# Altium schematic symbol library Components.SchLib: 76 symbols (part 2 of 3)
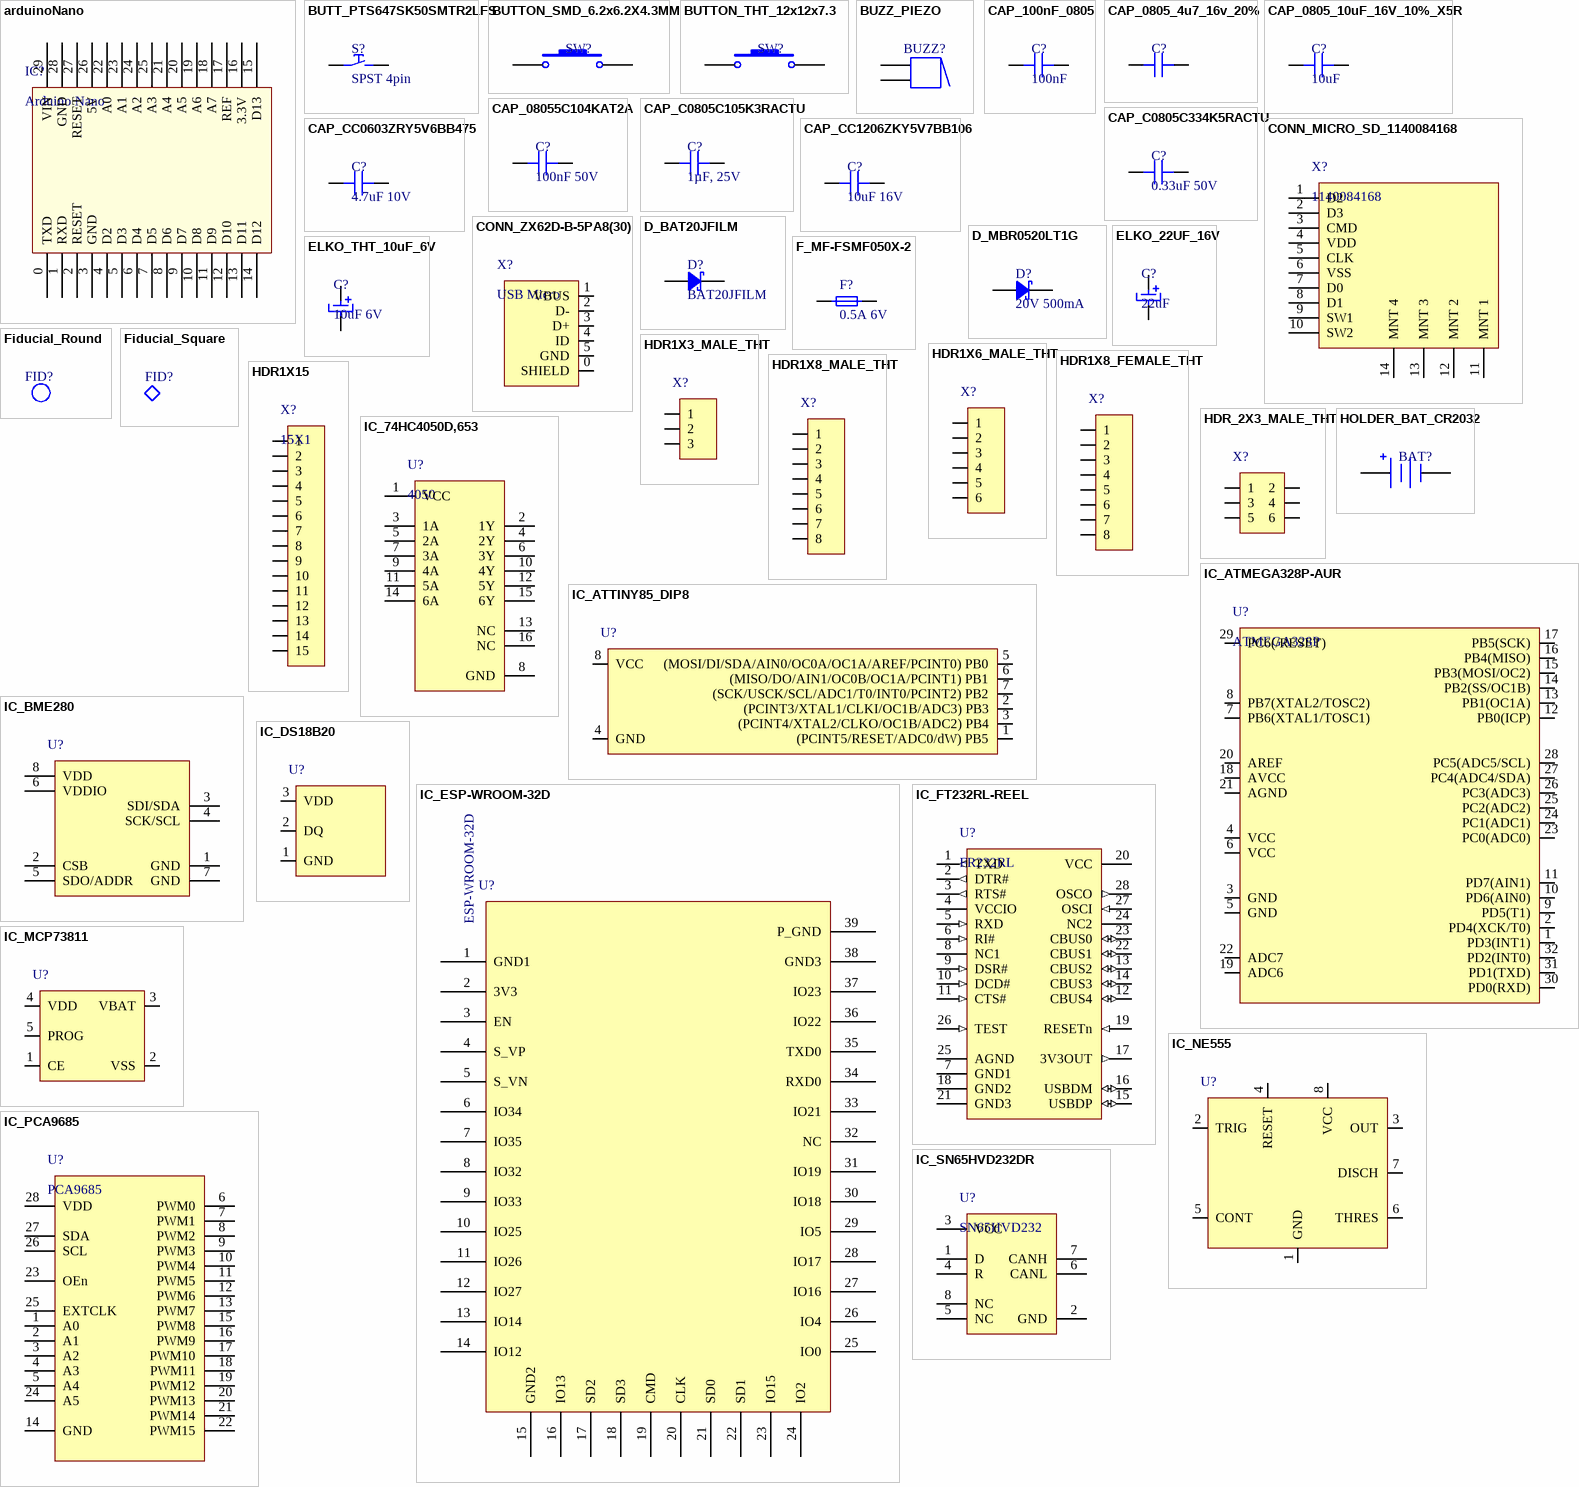
[diagram p2: symbols arduinoNano to IC_SN65HVD232DR]

## IC_ESP-WROOM-32D
designator U?, comment ESP-WROOM-32D
WIFI MODULE 32MBITS SPI FLASH; Manufacturer 1: Espressif Systems; Manufacturer Part Number 1: ESP32-WROOM-32D; Manufacturer Part Number: ESP-WROOM-32D; Supplier 1: Mouser; RoHS: No; Stock 1: 289; Pricing 1: 1=3.800000, 5=3.800000 (USD); ComponentLink1URL: https://www.espressif.com/sites/default/files/documentation/esp32-wroom-32d_esp32-wroom-32u_datasheet_en.pdf?src-supplier=Digi-Key; ComponentLink1Description: https://www.espressif.com/sites/default/files/documentation/esp32-wroom-32d_esp32-wroom-32u_datasheet_en.pdf?src-supplier=Digi-Key; Supplier Part Number 1: 356-ESP32WROOM-32D
footprint ESP-WROOM-32 (SP32-WROOM-32D)
pins: 1 GND1, 2 3V3, 3 EN, 4 S_VP, 5 S_VN, 6 IO34, 7 IO35, 8 IO32, 9 IO33, 10 IO25, 11 IO26, 12 IO27, 13 IO14, 14 IO12, 15 GND2, 16 IO13, 17 SD2, 18 SD3, 19 CMD, 20 CLK, 21 SD0, 22 SD1, 23 IO15, 24 IO2, 25 IO0, 26 IO4, 27 IO16, 28 IO17, 29 IO5, 30 IO18, 31 IO19, 32 NC, 33 IO21, 34 RXD0, 35 TXD0, 36 IO22, 37 IO23, 38 GND3, 39 P_GND

## IC_FT232RL-REEL
designator U?, comment FR232RL
IC USB FS SERIAL UART 28-SSOP; Manufacturer 1: FTDI; Manufacturer Part Number 1: FT232RL-REEL; Number of Channels: 1; Max Supply Voltage: 5.25V; Min Supply Voltage: 3.3V; Data Rate: 12Mbps; Interface: UART,RS-232,RS-422,RS-485; Operating Supply Current: 15mA; Voltage: 5V; Supplier 1: Mouser; Stock 1: 112988; Pricing 1: 1=4.50000, 10=4.05000, 50=3.85000, 100=3.65000, 250=3.25000, 500=2.85000, 1000=2.65000, 6000=2.35000, 10000=2.65000 (USD); RoHS: Yes; Mount: Surface Mount; Case/Package: SSOP; Number of Pins: 28; Weight: 0.080001oz; Min Operating Temperature: -40°C; Max Operating Temperature: 85°C; Packaging: Tape and Reel; Package Quantity: 2000; Number of Transceivers: 1; Length: 10.2mm; Height: 1.75mm; Width: 5.3mm; Radiation Hardening: No; Lead Free: Lead Free; REACH SVHC: No SVHC; ComponentLink1URL: https://datasheet.ciiva.com/34304/2161019-34304054.pdf?src-supplier=Jameco; ComponentLink1Description: https://datasheet.ciiva.com/34304/2161019-34304054.pdf?src-supplier=Jameco; ComponentLink2URL: https://datasheet.ciiva.com/4787/ds-ft232r-11534-4787658.pdf?src-supplier=Mouser; ComponentLink2Description: https://datasheet.ciiva.com/4787/ds-ft232r-11534-4787658.pdf?src-supplier=Mouser; ComponentLink3URL: https://datasheet.ciiva.com/26841/ft232rl-reel-26841080.pdf?src-supplier=IIIC; ComponentLink3Description: https://datasheet.ciiva.com/26841/ft232rl-reel-26841080.pdf?src-supplier=IIIC; ComponentLink4URL: https://datasheet.ciiva.com/1787/ds-ft232r-1787047.pdf?src-supplier=Digi-Key; ComponentLink4Description: https://datasheet.ciiva.com/1787/ds-ft232r-1787047.pdf?src-supplier=Digi-Key; ComponentLink5URL: https://datasheet.ciiva.com/1787/ds-ft232r-1787048.pdf?src-supplier=Digi-Key; ComponentLink5Description: https://datasheet.ciiva.com/1787/ds-ft232r-1787048.pdf?src-supplier=Digi-Key; ComponentLink6URL: https://datasheet.ciiva.com/1787/ds-ft232r-1787049.pdf?src-supplier=Digi-Key; ComponentLink6Description: https://datasheet.ciiva.com/1787/ds-ft232r-1787049.pdf?src-supplier=Digi-Key; ComponentLink7URL: https://datasheet.ciiva.com/15150/getdatasheetpartid-643207-15150506.pdf?src-supplier=Verical; ComponentLink7Description: https://datasheet.ciiva.com/15150/getdatasheetpartid-643207-15150506.pdf?src-supplier=Verical; ComponentLink8URL: https://datasheet.ciiva.com/16200/ds-ft232r-16200652.pdf?src-supplier=Future+Electronics; ComponentLink8Description: https://datasheet.ciiva.com/16200/ds-ft232r-16200652.pdf?src-supplier=Future+Electronics; Supplier Part Number 1: 895-FT232RL
footprint SOP65P780X200-28N (SOP, 28-Leads, Body 10.20x5.30mm, Pitch 0.65mm, IPC Medium Density)
pins: 1 TXD (out), 2 DTR# (out), 3 RTS# (out), 4 VCCIO (power), 5 RXD (in), 6 RI# (in), 7 GND1 (power), 8 NC1, 9 DSR# (in), 10 DCD# (in), 11 CTS# (in), 12 CBUS4 (io), 13 CBUS2 (io), 14 CBUS3 (io), 15 USBDP (io), 16 USBDM (io), 17 3V3OUT (out), 18 GND2 (power), 19 RESETn (in), 20 VCC (power), 21 GND3 (power), 22 CBUS1 (io), 23 CBUS0 (io), 24 NC2, 25 AGND (power), 26 TEST (in), 27 OSCI (in), 28 OSCO (out)

## IC_MCP73811
designator U?, comment MCP73811  (value not drawn)
MICROCHIP - MCP73811T-420I/OT - IC, BATT MGMT, LI-ION/LI-POLY, SOT23-5; Output Voltage: 4.2V; Number of Cells: 1; Max Input Voltage: 7V; Max Supply Voltage: 6V; Min Supply Voltage: 3.75V; Output Current: 450mA; Operating Supply Current: 1mA; Drain to Source Resistance: 400mR; Supplier 1: Mouser; Manufacturer 1: Microchip; Manufacturer Part Number 1: MCP73811T-420I/OT; RoHS: Yes; Category: Battery Management; Stock 1: 10713; Pricing 1: 1=0.51000, 10=0.51000, 25=0.43000, 100=0.39000, 250=0.39000, 500=0.39000 (USD); Mount: Surface Mount; Case/Package: SOT-23; Number of Pins: 5; Min Operating Temperature: -40°C; Max Operating Temperature: 85°C; Packaging: Tape and Reel; Package Quantity: 3000; Number of Channels: 1; Max Output Voltage: 4.2V; Max Charge Current: 450mA; Voltage Rating: 4.2V; Length: 3.1mm; Height: 1.3mm; Width: 1.8mm; Radiation Hardening: No; REACH SVHC: No SVHC; Lead Free: Lead Free; ComponentLink1URL: https://datasheet.ciiva.com/16495/filehandler-aspxddocname-en528273-16495933.pdf?src-supplier=Future+Electronics; ComponentLink1Description: https://datasheet.ciiva.com/16495/filehandler-aspxddocname-en528273-16495933.pdf?src-supplier=Future+Electronics; ComponentLink2URL: https://datasheet.ciiva.com/1137/77596-1137798.pdf?src-supplier=Element14; ComponentLink2Description: https://datasheet.ciiva.com/1137/77596-1137798.pdf?src-supplier=Element14; ComponentLink3URL: https://datasheet.ciiva.com/17299/22036b-17299414.pdf?src-supplier=Avnet+Europe; ComponentLink3Description: https://datasheet.ciiva.com/17299/22036b-17299414.pdf?src-supplier=Avnet+Europe; ComponentLink4URL: https://datasheet.ciiva.com/3213/22036b-3213402.pdf?src-supplier=Avnet; ComponentLink4Description: https://datasheet.ciiva.com/3213/22036b-3213402.pdf?src-supplier=Avnet; ComponentLink5URL: https://datasheet.ciiva.com/1931/22036b-1931947.pdf?src-supplier=Digi-Key; ComponentLink5Description: https://datasheet.ciiva.com/1931/22036b-1931947.pdf?src-supplier=Digi-Key; ComponentLink6URL: https://datasheet.ciiva.com/8039/77596-8039387.pdf?src-supplier=Element14; ComponentLink6Description: https://datasheet.ciiva.com/8039/77596-8039387.pdf?src-supplier=Element14; ComponentLink7URL: https://datasheet.ciiva.com/1931/22036b-1931948.pdf?src-supplier=Digi-Key; ComponentLink7Description: https://datasheet.ciiva.com/1931/22036b-1931948.pdf?src-supplier=Digi-Key; ComponentLink8URL: https://datasheet.ciiva.com/18411/70046436-18411420.pdf?src-supplier=Allied+Electronics; ComponentLink8Description: https://datasheet.ciiva.com/18411/70046436-18411420.pdf?src-supplier=Allied+Electronics; ComponentLink9URL: https://datasheet.ciiva.com/1931/22036b-1931949.pdf?src-supplier=Digi-Key; ComponentLink9Description: https://datasheet.ciiva.com/1931/22036b-1931949.pdf?src-supplier=Digi-Key; Supplier Part Number 1: 579-MCP73811T-420IOT
footprint SOT23-5P95_270X145L35X35N (Small Outline Transistor (SOT23), 0.95 mm pitch; 5 pin, 2.90 mm L X 1.55 mm W X 1.45 mm H body)
pins: 1 CE, 2 VSS, 3 VBAT, 4 VDD, 5 PROG

## IC_NE555
designator U?, comment NE555  (value not drawn)
TEXAS INSTRUMENTS         NE555P            TIMER SINGLE PRECISION,DIP8 ,0.5MHZ; Min Supply Voltage: 4.5V; Max Supply Voltage: 16V; Number of Timers/Counters: 1; Frequency: 500kHz; High Level Output Current: -200mA; Low Level Output Current: 200mA; Operating Supply Current: 10mA; Nominal Supply Current: 2mA; Quiescent Current: 15mA; Operating Supply Voltage: 5V; Supplier 1: Mouser; Manufacturer 1: Texas Instruments; Manufacturer Part Number 1: NE555P; RoHS: Yes; Category: Clock and Timing; Stock 1: 22987; Pricing 1: 1=0.45000, 10=0.30800, 100=0.14500, 1000=0.11200, 2500=0.09500, 10000=0.08600 (USD); Mount: Through Hole; Case/Package: PDIP; Number of Pins: 8; Weight: 0.015535oz; Contact Plating: Gold; Min Operating Temperature: 0°C; Max Operating Temperature: 70°C; Packaging: Rail/Tube; Package Quantity: 50; Current Rating: 10mA; Length: 9.81mm; Height: 4.57mm; Width: 6.35mm; Radiation Hardening: No; Lead Free: Lead Free; REACH SVHC: No SVHC; ComponentLink1URL: https://datasheet.ciiva.com/1139/sa555-1139904.pdf?src-supplier=Element14; ComponentLink1Description: https://datasheet.ciiva.com/1139/sa555-1139904.pdf?src-supplier=Element14; ComponentLink2URL: https://datasheet.ciiva.com/19457/904085-19457361.pdf?src-supplier=Jameco; ComponentLink2Description: https://datasheet.ciiva.com/19457/904085-19457361.pdf?src-supplier=Jameco; ComponentLink3URL: https://datasheet.ciiva.com/26325/152184-da-01-en-ne555p-timer-tid-26325915.pdf?src-supplier=Conrad; ComponentLink3Description: https://datasheet.ciiva.com/26325/152184-da-01-en-ne555p-timer-tid-26325915.pdf?src-supplier=Conrad; ComponentLink4URL: https://datasheet.ciiva.com/1147/1764032-1147750.pdf?src-supplier=Newark; ComponentLink4Description: https://datasheet.ciiva.com/1147/1764032-1147750.pdf?src-supplier=Newark; ComponentLink5URL: https://datasheet.ciiva.com/14094/ne555-series-eng-tds-14094950.pdf?src-supplier=Distrelec; ComponentLink5Description: https://datasheet.ciiva.com/14094/ne555-series-eng-tds-14094950.pdf?src-supplier=Distrelec; ComponentLink6URL: https://datasheet.ciiva.com/15152/getdatasheetpartid-248510-15152620.pdf?src-supplier=Verical; ComponentLink6Description: https://datasheet.ciiva.com/15152/getdatasheetpartid-248510-15152620.pdf?src-supplier=Verical; ComponentLink7URL: https://datasheet.ciiva.com/14274/ne555-14274456.pdf?src-supplier=Avnet; ComponentLink7Description: https://datasheet.ciiva.com/14274/ne555-14274456.pdf?src-supplier=Avnet; ComponentLink8URL: https://datasheet.ciiva.com/26228/ne555-26228892.pdf?src-supplier=Avnet+Europe; ComponentLink8Description: https://datasheet.ciiva.com/26228/ne555-26228892.pdf?src-supplier=Avnet+Europe; ComponentLink9URL: https://datasheet.ciiva.com/1233/ne555-1233454.pdf?src-supplier=Digi-Key; ComponentLink9Description: https://datasheet.ciiva.com/1233/ne555-1233454.pdf?src-supplier=Digi-Key
footprint DIPS750W60P254L1036H480Q8 (DIPS, 7.50 mm lead span, 2.54 mm pitch; 8 pin, 10.36 mm L X 10.10 mm W X 4.80 mm H body)
pins: 1 GND, 2 TRIG, 3 OUT, 4 RESET, 5 CONT, 6 THRES, 7 DISCH, 8 VCC

## IC_PCA9685
designator U?, comment PCA9685
16-channel, 12-bit PWM Fm+ I2C-bus LED controller; Manufacturer 1: NXP Semiconductors; Manufacturer Part Number 1: PCA9685PW,118; Number of Outputs: 16; Frequency: 1MHz; Max Supply Voltage: 5.5V; Min Supply Voltage: 2.3V; Nominal Supply Current: 10A; Output Current per Channel: 25mA; High Level Output Current: 10mA; Low Level Output Current: 400A; Power Dissipation: 400W; Supplier 1: Mouser; Stock 1: 9912; Pricing 1: 1=2.26000, 10=1.92000, 100=1.54000, 500=1.35000, 1000=1.12000, 2500=1.04000, 5000=0.99800, 10000=0.96000, 25000=0.92200 (USD); RoHS: Yes; Mount: Surface Mount; Case/Package: TSSOP; Number of Pins: 28; Min Operating Temperature: -40°C; Max Operating Temperature: 85°C; Packaging: Tape and Reel; Package Quantity: 2500; Output Voltage: 5.5V; Dimming: PWM; Radiation Hardening: No; Lead Free: Lead Free; ComponentLink1URL: https://datasheet.ciiva.com/15134/getdatasheetpartid-103066-15134201.pdf?src-supplier=Verical; ComponentLink1Description: https://datasheet.ciiva.com/15134/getdatasheetpartid-103066-15134201.pdf?src-supplier=Verical; ComponentLink2URL: https://datasheet.ciiva.com/1947/pca9685-1947062.pdf?src-supplier=Digi-Key; ComponentLink2Description: https://datasheet.ciiva.com/1947/pca9685-1947062.pdf?src-supplier=Digi-Key; ComponentLink3URL: https://datasheet.ciiva.com/8125/pca9685-8125357.pdf?src-supplier=Avnet; ComponentLink3Description: https://datasheet.ciiva.com/8125/pca9685-8125357.pdf?src-supplier=Avnet; Supplier Part Number 1: 771-PCA9685PW,118
footprint SOP28P65_970X640X110L62X24N (Small Outline Pkg (SOP), 0.65 mm pitch; 28 pin, 9.70 mm L X 4.40 mm W X 1.10 mm H body)
pins: 1 A0, 2 A1, 3 A2, 4 A3, 5 A4, 6 PWM0, 7 PWM1, 8 PWM2, 9 PWM3, 10 PWM4, 11 PWM5, 12 PWM6, 13 PWM7, 14 GND, 15 PWM8, 16 PWM9, 17 PWM10, 18 PWM11, 19 PWM12, 20 PWM13, 21 PWM14, 22 PWM15, 23 OEn, 24 A5, 25 EXTCLK, 26 SCL, 27 SDA, 28 VDD

## IC_SN65HVD232DR
designator U?, comment SN65HVD232
CAN Interface IC 3.3-V CAN TRANSCEIVER; Manufacturer 1: Texas Instruments; Manufacturer Part Number 1: SN65HVD232DR; Data Rate: 1Mbps; Min Supply Voltage: 3V; Max Supply Voltage: 3.6V; Nominal Supply Current: 17mA; Number of Transceivers: 1; Supplier 1: Mouser; Stock 1: 27899; Pricing 1: 1=1.95000, 10=1.65000, 100=1.32000, 500=1.16000, 1000=0.95700, 2500=0.89100, 5000=0.85800, 10000=0.82500 (USD); RoHS: Yes; Case/Package: D; Number of Pins: 8; Weight: 0.002561oz; Min Operating Temperature: -40°C; Max Operating Temperature: 85°C; Packaging: Tape and Reel; Package Quantity: 1; Number of Drivers: 1; Number of Receivers: 1; Number of Transmit Buffers: 1; Number of Receive Buffers: 1; Radiation Hardening: No; Lead Free: Lead Free; REACH SVHC: No SVHC; ComponentLink1URL: https://datasheet.ciiva.com/15149/getdatasheetpartid-107534-15149958.pdf?src-supplier=Verical; ComponentLink1Description: https://datasheet.ciiva.com/15149/getdatasheetpartid-107534-15149958.pdf?src-supplier=Verical; ComponentLink2URL: https://datasheet.ciiva.com/1771/sn65hvd230-1771112.pdf?src-supplier=Digi-Key; ComponentLink2Description: https://datasheet.ciiva.com/1771/sn65hvd230-1771112.pdf?src-supplier=Digi-Key; ComponentLink3URL: https://datasheet.ciiva.com/1771/sn65hvd230-1771113.pdf?src-supplier=Digi-Key; ComponentLink3Description: https://datasheet.ciiva.com/1771/sn65hvd230-1771113.pdf?src-supplier=Digi-Key; ComponentLink4URL: https://datasheet.ciiva.com/1771/sn65hvd230-1771114.pdf?src-supplier=Digi-Key; ComponentLink4Description: https://datasheet.ciiva.com/1771/sn65hvd230-1771114.pdf?src-supplier=Digi-Key; Supplier Part Number 1: 595-SN65HVD232DR
footprint SOIC8P127_490X599X175L84X41N (Footprint not found)
pins: 1 D, 2 GND, 3 VCC, 4 R, 5 NC, 6 CANL, 7 CANH, 8 NC

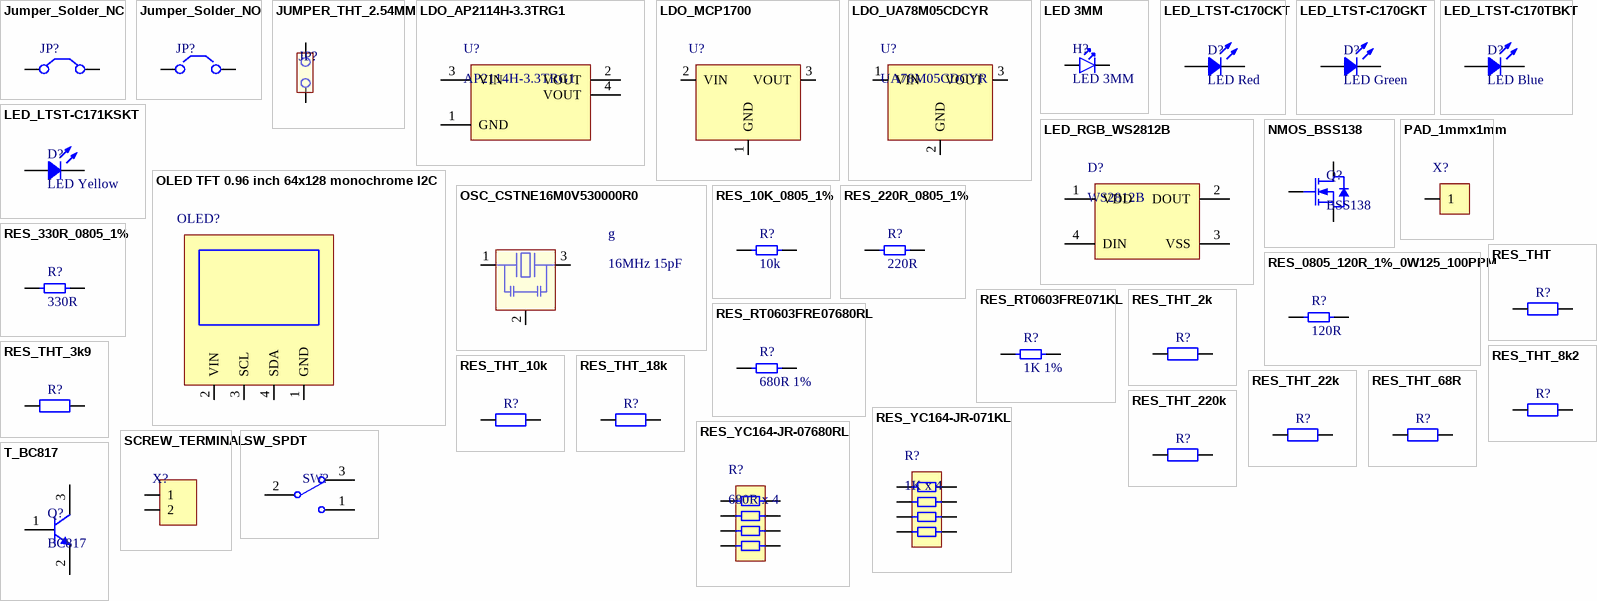
[diagram p1: symbols Jumper_Solder_NC to T_BC817]

## Jumper_Solder_NC
designator JP?
Solder Jumper - Round NC
footprint Round_PCB_Jumper_NC
pins: 1 C1, 2 C2

## Jumper_Solder_NO
designator JP?
Solder Jumper - Round NO
footprint Round_PCB_Jumper_NO
footprint Solder Bridge
pins: 1 C1, 2 C2

## JUMPER_THT_2.54MM
designator JP?
Jumper, through-hole,  2.54mm pitch
footprint HDRV2W64P254_2X1_508X241H850 (Header, Vertical, 2.54 mm pitch; 0.64 mm lead width, 2 pins, 1 row, 2 pins per row, 5.08 mm L X 2.41 mm W X 8.50 mm H body)
pins: 1 C1, 2 C2

## LDO_AP2114H-3.3TRG1
designator U?, comment AP2114H-3.3TRG1
LDO Voltage Regulators 1.5MHz CMOS LDO 2.5V to 5V 600mV 1A; Manufacturer 1: Diodes; Number of Outputs: 1; Max Input Voltage: 6V; Output Voltage: 3.3V; Dropout Voltage: 450mV; Polarity: Positive; Quiescent Current: 65uA; Accuracy: 1.5%; Power Supply Rejection Ratio (PSRR): 65dB; Output Type: Fixed; Supplier 1: Mouser; Manufacturer Part Number 1: AP2114H-3.3TRG1; Stock 1: 20148; Pricing 1: 1=0.36000, 10=0.26800, 100=0.14600, 1000=0.10900, 4000=0.09400, 8000=0.08800 (USD); RoHS: Yes; Mount: Surface Mount; Case/Package: SOT-223; Number of Pins: 3; Weight: 0.000282oz; Min Operating Temperature: -40°C; Max Operating Temperature: 85°C; Packaging: Tape and Reel; Min Input Voltage: 2.5V; Package Quantity: 4000; Output Current: 1A; Number of Regulators: 1; Max Output Current: 1A; Length: 6.7mm; Height: 1.7mm; Width: 3.7mm; Lead Free: Lead Free; ComponentLink1URL: https://datasheet.ciiva.com/29569/ap2114-29569881.pdf?src-supplier=Digi-Key; ComponentLink1Description: https://datasheet.ciiva.com/29569/ap2114-29569881.pdf?src-supplier=Digi-Key; ComponentLink2URL: https://datasheet.ciiva.com/29569/ap2114-29569882.pdf?src-supplier=Digi-Key; ComponentLink2Description: https://datasheet.ciiva.com/29569/ap2114-29569882.pdf?src-supplier=Digi-Key; ComponentLink3URL: https://datasheet.ciiva.com/29569/ap2114-29569883.pdf?src-supplier=Digi-Key; ComponentLink3Description: https://datasheet.ciiva.com/29569/ap2114-29569883.pdf?src-supplier=Digi-Key; Supplier Part Number 1: 621-AP2114H-3.3TRG1
footprint SOT223-4P230_700X180L90X71N (Small Outline Transistor (SOT223), 2.30 mm pitch; 4 pin, 6.50 mm L X 3.50 mm W X 1.80 mm H body)
pins: 1 GND, 2 VOUT, 3 VIN, 4 VOUT

## LDO_MCP1700
designator U?, comment MCP1700  (value not drawn)
MICROCHIP - MCP1700T-3302E/MB - V REG, LDO, 0.25A, SMD, SOT-89-8; Max Input Voltage: 6V; Quiescent Current: 4uA; Output Type: Fixed; Number of Outputs: 1; Min Input Voltage: 2.3V; Output Voltage: 3.3V; Dropout Voltage: 178mV; Output Current: 250mA; Polarity: Positive; Accuracy: 3%; Max Power Dissipation: 1.635W; Input Bias Current: 1.6uA; Output Voltage Accuracy: 2%; Supplier 1: Mouser; Manufacturer 1: Microchip; Manufacturer Part Number 1: MCP1700T-3302E/MB; RoHS: Yes; Category: Voltage Regulators - Linear; Stock 1: 8546; Pricing 1: 1=0.37000, 10=0.37000, 25=0.31000, 100=0.28000, 250=0.28000, 500=0.28000 (USD); Mount: Surface Mount; Case/Package: SOT-89; Number of Pins: 3; Min Operating Temperature: -40°C; Max Operating Temperature: 125°C; Packaging: Tape and Reel; Min Output Voltage: 3.3V; Max Output Current: 250mA; Max Supply Voltage: 6V; Min Supply Voltage: 2.3V; Nominal Output Voltage: 3.3V; Package Quantity: 1000; Max Output Voltage: 3.3V; Termination: SMD/SMT; Nominal Supply Current: 4uA; Power Dissipation: 1.635W; Length: 0.181inch; Height: 0.063inch; Width: 0.102inch; Radiation Hardening: No; REACH SVHC: No SVHC; Lead Free: Lead Free; ComponentLink1URL: https://datasheet.ciiva.com/2040/21826b-2040133.pdf?src-supplier=Digi-Key; ComponentLink1Description: https://datasheet.ciiva.com/2040/21826b-2040133.pdf?src-supplier=Digi-Key; ComponentLink2URL: https://datasheet.ciiva.com/8239/21826b-8239141.pdf?src-supplier=Avnet; ComponentLink2Description: https://datasheet.ciiva.com/8239/21826b-8239141.pdf?src-supplier=Avnet; ComponentLink3URL: https://datasheet.ciiva.com/2040/21826b-2040134.pdf?src-supplier=Digi-Key; ComponentLink3Description: https://datasheet.ciiva.com/2040/21826b-2040134.pdf?src-supplier=Digi-Key; ComponentLink4URL: https://datasheet.ciiva.com/46425/21826b-46425574.pdf?src-supplier=Element14; ComponentLink4Description: https://datasheet.ciiva.com/46425/21826b-46425574.pdf?src-supplier=Element14; ComponentLink5URL: https://datasheet.ciiva.com/2040/21826b-2040135.pdf?src-supplier=Digi-Key; ComponentLink5Description: https://datasheet.ciiva.com/2040/21826b-2040135.pdf?src-supplier=Digi-Key; ComponentLink6URL: https://datasheet.ciiva.com/14150/mcp1700-eng-tds-14150121.pdf?src-supplier=Distrelec; ComponentLink6Description: https://datasheet.ciiva.com/14150/mcp1700-eng-tds-14150121.pdf?src-supplier=Distrelec; ComponentLink7URL: https://datasheet.ciiva.com/22710/77612-22710987.pdf?src-supplier=Element14; ComponentLink7Description: https://datasheet.ciiva.com/22710/77612-22710987.pdf?src-supplier=Element14; ComponentLink8URL: https://datasheet.ciiva.com/16372/filehandler-aspxddocname-en011779-16372940.pdf?src-supplier=Future+Electronics; ComponentLink8Description: https://datasheet.ciiva.com/16372/filehandler-aspxddocname-en011779-16372940.pdf?src-supplier=Future+Electronics; Supplier Part Number 1: 579-MCP1700T3302E/MB
footprint SOT-89
pins: 1 GND, 2 VIN, 3 VOUT

## LDO_UA78M05CDCYR
designator U?, comment UA78M05CDCYR
IC REG LINEAR 5V 500MA SOT223-4; Manufacturer 1: Texas Instruments; Dropout Voltage: 2V; Number of Outputs: 1; Min Input Voltage: 7V; Max Input Voltage: 25V; Polarity: Positive; Power Supply Rejection Ratio (PSRR): 80dB; Quiescent Current: 4.5mA; Output Type: Fixed; Supplier 1: Mouser; Manufacturer Part Number 1: UA78M05CDCYR; Stock 1: 27564; Pricing 1: 1=0.62000, 10=0.51000, 50=0.51000, 100=0.33000, 1000=0.26400, 2500=0.24000, 5000=0.22300, 10000=0.21500, 25000=0.20700, 50000=0.19900 (USD); RoHS: Yes; Mount: Surface Mount; Case/Package: SOT-223-4; Number of Pins: 4; Contact Plating: Tin,Matte; Min Operating Temperature: -40°C; Max Operating Temperature: 125°C; Package Quantity: 1; Packaging: Tape and Reel; Max Output Current: 500mA; Output Voltage: 5V; Output Current: 500mA; Number of Regulators: 1; Nominal Output Voltage: 5V; Lead Free: Lead Free; REACH SVHC: No SVHC; ComponentLink1URL: https://datasheet.ciiva.com/34302/1131150-34302006.pdf?src-supplier=Jameco; ComponentLink1Description: https://datasheet.ciiva.com/34302/1131150-34302006.pdf?src-supplier=Jameco; ComponentLink2URL: https://datasheet.ciiva.com/26905/ua78m05cdcyr-26905194.pdf?src-supplier=IIIC; ComponentLink2Description: https://datasheet.ciiva.com/26905/ua78m05cdcyr-26905194.pdf?src-supplier=IIIC; ComponentLink3URL: https://datasheet.ciiva.com/2042/ua78m05-2042242.pdf?src-supplier=Digi-Key; ComponentLink3Description: https://datasheet.ciiva.com/2042/ua78m05-2042242.pdf?src-supplier=Digi-Key; ComponentLink4URL: https://datasheet.ciiva.com/2042/ua78m05-2042243.pdf?src-supplier=Digi-Key; ComponentLink4Description: https://datasheet.ciiva.com/2042/ua78m05-2042243.pdf?src-supplier=Digi-Key; ComponentLink5URL: https://datasheet.ciiva.com/2042/ua78m05-2042244.pdf?src-supplier=Digi-Key; ComponentLink5Description: https://datasheet.ciiva.com/2042/ua78m05-2042244.pdf?src-supplier=Digi-Key; ComponentLink6URL: https://datasheet.ciiva.com/46429/1831162-46429893.pdf?src-supplier=Element14; ComponentLink6Description: https://datasheet.ciiva.com/46429/1831162-46429893.pdf?src-supplier=Element14; ComponentLink7URL: https://datasheet.ciiva.com/3224/ua78m05-3224614.pdf?src-supplier=Avnet; ComponentLink7Description: https://datasheet.ciiva.com/3224/ua78m05-3224614.pdf?src-supplier=Avnet; ComponentLink8URL: https://datasheet.ciiva.com/16490/ua78m12-16490202.pdf?src-supplier=Avnet+Asia; ComponentLink8Description: https://datasheet.ciiva.com/16490/ua78m12-16490202.pdf?src-supplier=Avnet+Asia; Supplier Part Number 1: 595-UA78M05CDCYR
footprint SOT223-4P230_700X163L100X74 (Small Outline Transistor (SOT223), 2.30 mm pitch; 4 pin, 6.50 mm L X 3.50 mm W X 1.63 mm H body)
pins: 1 VIN, 2 GND, 3 VOUT

## LED 3MM
designator H?
LED 3MM THT; RoHS: RoHS Compliant; THT/SMT: THT
footprint LED_3MM (LED; 2 Leads)
pins: A, K

## LED_LTST-C170CKT
designator D?, comment LED Red
LED Uni-Color Red 660nm 2-Pin SMD T/R; Manufacturer 1: Vishay Lite-On; Manufacturer Part Number 1: LTST-C170CKT; Lens Color: Colorless; Forward Voltage: 1.8V; Luminous Intensity: 10mcd; Viewing Angle: 130°; Lens Style: Diffused,Colorless,Rectangular,Clear; Test Current: 10mA; Forward Current: 40mA; Dominant Wavelength: 638nm; Number of LEDs: 1; Lens Transparency: Clear; Power Rating: 100mW; Reverse Voltage: 5V; Supplier 1: Mouser; Stock 1: 52302; Pricing 1: 1=0.35000, 10=0.19000, 50=0.19000, 100=0.08700, 1000=0.06400, 3000=0.05400, 9000=0.04900, 10000=0.04900, 24000=0.04400, 45000=0.04000, 99000=0.03700 (USD); RoHS: Yes; Mount: Surface Mount; Case/Package: 0805; Number of Pins: 2; Color: Red; Case Code (Metric): 2012; Case Code (Imperial): 0805; Min Operating Temperature: -55°C; Max Operating Temperature: 85°C; Packaging: Tape and Reel; Package Quantity: 1; Wavelength: 660nm; Illumination Color: Red; Number of Elements: 1; Power Dissipation: 100mW; Max Power Dissipation: 100mW; Voltage: 5V; Length: 2mm; Height: 1.1mm; Width: 1.25mm; Depth: 1.25mm; Radiation Hardening: No; Lead Free: Lead Free; ComponentLink1URL: https://datasheet.ciiva.com/2110/ltst-c170ckt-2110087.pdf?src-supplier=Digi-Key; ComponentLink1Description: https://datasheet.ciiva.com/2110/ltst-c170ckt-2110087.pdf?src-supplier=Digi-Key; ComponentLink2URL: https://datasheet.ciiva.com/15117/getdatasheetpartid-121078-15117607.pdf?src-supplier=Verical; ComponentLink2Description: https://datasheet.ciiva.com/15117/getdatasheetpartid-121078-15117607.pdf?src-supplier=Verical; ComponentLink3URL: https://datasheet.ciiva.com/16199/lite-on20ltst-c170ckt-16199245.pdf?src-supplier=Future+Electronics; ComponentLink3Description: https://datasheet.ciiva.com/16199/lite-on20ltst-c170ckt-16199245.pdf?src-supplier=Future+Electronics; ComponentLink4URL: https://datasheet.ciiva.com/11775/0900766b80dc0276-11775646.pdf?src-supplier=RSComponents; ComponentLink4Description: https://datasheet.ciiva.com/11775/0900766b80dc0276-11775646.pdf?src-supplier=RSComponents; ComponentLink5URL: https://datasheet.ciiva.com/2110/ltst-c170ckt-2110088.pdf?src-supplier=Digi-Key; ComponentLink5Description: https://datasheet.ciiva.com/2110/ltst-c170ckt-2110088.pdf?src-supplier=Digi-Key; ComponentLink6URL: https://datasheet.ciiva.com/2110/ltst-c170ckt-2110089.pdf?src-supplier=Digi-Key; ComponentLink6Description: https://datasheet.ciiva.com/2110/ltst-c170ckt-2110089.pdf?src-supplier=Digi-Key; ComponentLink7URL: https://datasheet.ciiva.com/27051/1260306-27051787.pdf?src-supplier=Jameco; ComponentLink7Description: https://datasheet.ciiva.com/27051/1260306-27051787.pdf?src-supplier=Jameco; Supplier Part Number 1: 859-LTST-C170CKT
footprint LED 0805/2012 RED (Chip Diode, 2-Leads, Body 2.00x1.25mm, IPC Medium Density)
pins: 1, 2

## LED_LTST-C170GKT
designator D?, comment LED Green
Standard LEDs - SMD Green Clear 569nm; Manufacturer 1: Vishay Lite-On; Manufacturer Part Number 1: LTST-C170GKT; Lens Color: Colorless; Viewing Angle: 130°; Lens Style: Diffused,Colorless,Rectangular; Luminous Intensity: 6mcd; Forward Current: 30mA; Forward Voltage: 2.1V; Test Current: 10mA; Wavelength: 565nm; Number of LEDs: 1; Power Rating: 100mW; Reverse Voltage: 5V; Supplier 1: Mouser; Stock 1: 80094; Pricing 1: 1=0.30000, 10=0.16000, 50=0.16000, 100=0.07500, 1000=0.05400, 3000=0.04600, 9000=0.04200, 10000=0.04200, 24000=0.03700, 45000=0.03400, 99000=0.03100 (USD); RoHS: Yes; Mount: Surface Mount; Case/Package: 0805; Number of Pins: 2; Color: Green; Case Code (Metric): 2012; Case Code (Imperial): 0805; Min Operating Temperature: -55°C; Max Operating Temperature: 85°C; Packaging: Tape and Reel; Package Quantity: 1; Dominant Wavelength: 569nm; Illumination Color: Green; Lens Transparency: Clear; Number of Elements: 1; Power Dissipation: 100mW; Voltage: 5V; Length: 2mm; Height: 1.1mm; Width: 1.25mm; Depth: 1.25mm; Radiation Hardening: No; Lead Free: Lead Free; ComponentLink1URL: https://datasheet.ciiva.com/2110/ltst-c170gkt-2110128.pdf?src-supplier=Digi-Key; ComponentLink1Description: https://datasheet.ciiva.com/2110/ltst-c170gkt-2110128.pdf?src-supplier=Digi-Key; ComponentLink2URL: https://datasheet.ciiva.com/25772/ltst-c170gkt-25772881.pdf?src-supplier=Allied+Electronics; ComponentLink2Description: https://datasheet.ciiva.com/25772/ltst-c170gkt-25772881.pdf?src-supplier=Allied+Electronics; ComponentLink3URL: https://datasheet.ciiva.com/15117/getdatasheetpartid-142079-15117738.pdf?src-supplier=Verical; ComponentLink3Description: https://datasheet.ciiva.com/15117/getdatasheetpartid-142079-15117738.pdf?src-supplier=Verical; ComponentLink4URL: https://datasheet.ciiva.com/11773/0900766b80dc0278-11773630.pdf?src-supplier=RSComponents; ComponentLink4Description: https://datasheet.ciiva.com/11773/0900766b80dc0278-11773630.pdf?src-supplier=RSComponents; ComponentLink5URL: https://datasheet.ciiva.com/12400/lite-on-ltst-c170gkt-187191-12400783.pdf?src-supplier=Mouser; ComponentLink5Description: https://datasheet.ciiva.com/12400/lite-on-ltst-c170gkt-187191-12400783.pdf?src-supplier=Mouser; ComponentLink6URL: https://datasheet.ciiva.com/16387/ltst-c170gkt-16387357.pdf?src-supplier=Future+Electronics; ComponentLink6Description: https://datasheet.ciiva.com/16387/ltst-c170gkt-16387357.pdf?src-supplier=Future+Electronics; Supplier Part Number 1: 859-LTST-C170GKT
footprint LED 0805/2012 GREEN (Chip Diode, 2-Leads, Body 2.00x1.25mm, IPC Medium Density)
pins: 1, 2

## LED_LTST-C170TBKT
designator D?, comment LED Blue
LED BLUE CLEAR SMD; Manufacturer 1: Vishay Lite-On; Manufacturer Part Number 1: LTST-C170TBKT; Lens Color: Colorless; Viewing Angle: 130°; Lens Style: Diffused,Colorless,Clear,Rectangular; Number of LEDs: 1; Luminous Intensity: 180mcd; Forward Current: 20mA; Forward Voltage: 3.8V; Dominant Wavelength: 475nm; Wavelength: 468nm; Power Dissipation: 76mW; Reverse Voltage: 5V; Supplier 1: Mouser; Stock 1: 13640; Pricing 1: 1=0.39000, 10=0.24000, 50=0.24000, 100=0.14600, 1000=0.09200, 3000=0.07900, 9000=0.07200, 10000=0.07200, 24000=0.06700, 45000=0.06200, 99000=0.05900 (USD); RoHS: Yes; Mount: Surface Mount; Case/Package: 0805; Number of Pins: 2; Color: Blue; Case Code (Metric): 2012; Case Code (Imperial): 0805; Min Operating Temperature: -20°C; Max Operating Temperature: 80°C; Packaging: Tape and Reel; Package Quantity: 1; Illumination Color: Blue; Lens Transparency: Clear; Test Current: 20mA; Number of Elements: 1; Power Rating: 76mW; Length: 2mm; Height: 1.1mm; Width: 1.25mm; Depth: 1.25mm; Radiation Hardening: No; Lead Free: Lead Free; ComponentLink1URL: https://datasheet.ciiva.com/12400/lite-on-ltst-c170tbkt-190169-12400787.pdf?src-supplier=Mouser; ComponentLink1Description: https://datasheet.ciiva.com/12400/lite-on-ltst-c170tbkt-190169-12400787.pdf?src-supplier=Mouser; ComponentLink2URL: https://datasheet.ciiva.com/27055/1996161-27055955.pdf?src-supplier=Jameco; ComponentLink2Description: https://datasheet.ciiva.com/27055/1996161-27055955.pdf?src-supplier=Jameco; ComponentLink3URL: https://datasheet.ciiva.com/11773/0900766b80dc0281-11773879.pdf?src-supplier=RSComponents; ComponentLink3Description: https://datasheet.ciiva.com/11773/0900766b80dc0281-11773879.pdf?src-supplier=RSComponents; ComponentLink4URL: https://datasheet.ciiva.com/15117/getdatasheetpartid-103986-15117447.pdf?src-supplier=Verical; ComponentLink4Description: https://datasheet.ciiva.com/15117/getdatasheetpartid-103986-15117447.pdf?src-supplier=Verical; ComponentLink5URL: https://datasheet.ciiva.com/16199/lite-on20ltst-c170tbkt-16199611.pdf?src-supplier=Future+Electronics; ComponentLink5Description: https://datasheet.ciiva.com/16199/lite-on20ltst-c170tbkt-16199611.pdf?src-supplier=Future+Electronics; ComponentLink6URL: https://datasheet.ciiva.com/25764/ltst-c170tbkt-25764828.pdf?src-supplier=Allied+Electronics; ComponentLink6Description: https://datasheet.ciiva.com/25764/ltst-c170tbkt-25764828.pdf?src-supplier=Allied+Electronics; ComponentLink7URL: https://datasheet.ciiva.com/2110/s-110-ltst-c170tbkt-2110488.pdf?src-supplier=Digi-Key; ComponentLink7Description: https://datasheet.ciiva.com/2110/s-110-ltst-c170tbkt-2110488.pdf?src-supplier=Digi-Key; ComponentLink8URL: https://datasheet.ciiva.com/2110/s-110-ltst-c170tbkt-2110489.pdf?src-supplier=Digi-Key; ComponentLink8Description: https://datasheet.ciiva.com/2110/s-110-ltst-c170tbkt-2110489.pdf?src-supplier=Digi-Key; ComponentLink9URL: https://datasheet.ciiva.com/2110/s-110-ltst-c170tbkt-2110490.pdf?src-supplier=Digi-Key; ComponentLink9Description: https://datasheet.ciiva.com/2110/s-110-ltst-c170tbkt-2110490.pdf?src-supplier=Digi-Key; Supplier Part Number 1: 859-LTST-C170TBKT
footprint LED 0805/2012 BLUE (Chip Diode, 2-Leads, Body 2.00x1.25mm, IPC Medium Density)
pins: 1, 2

## LED_LTST-C171KSKT
designator D?, comment LED Yellow
LED YELLOW CLEAR CHIP SMD; Manufacturer 1: Vishay Lite-On; Manufacturer Part Number 1: LTST-C171KSKT; Lens Color: Colorless; Luminous Intensity: 50mcd; Forward Voltage: 2V; Viewing Angle: 130°; Forward Current: 30mA; Lens Style: Diffused,Colorless,Rectangular,Clear; Dominant Wavelength: 587nm; Test Current: 20mA; Wavelength: 588nm; Number of LEDs: 1; Power Dissipation: 75mW; Reverse Voltage: 5V; Supplier 1: Mouser; Stock 1: 54023; Pricing 1: 1=0.30000, 10=0.16000, 50=0.16000, 100=0.07500, 1000=0.05400, 3000=0.04600, 9000=0.04200, 10000=0.04200, 24000=0.03700, 45000=0.03400, 99000=0.03100 (USD); RoHS: Yes; Mount: Surface Mount; Case/Package: 0805; Number of Pins: 2; Color: Yellow; Case Code (Metric): 2012; Case Code (Imperial): 0805; Min Operating Temperature: -55°C; Max Operating Temperature: 85°C; Packaging: Tape and Reel; Package Quantity: 1; Illumination Color: Yellow; Lens Transparency: Clear; Power Rating: 75mW; Number of Elements: 1; Max Power Dissipation: 75mW; Length: 2mm; Height: 0.8mm; Width: 1.25mm; Depth: 1.25mm; Radiation Hardening: No; Lead Free: Lead Free; ComponentLink1URL: https://datasheet.ciiva.com/15118/getdatasheetpartid-233685-15118145.pdf?src-supplier=Verical; ComponentLink1Description: https://datasheet.ciiva.com/15118/getdatasheetpartid-233685-15118145.pdf?src-supplier=Verical; ComponentLink2URL: https://datasheet.ciiva.com/19466/2075639-19466196.pdf?src-supplier=Jameco; ComponentLink2Description: https://datasheet.ciiva.com/19466/2075639-19466196.pdf?src-supplier=Jameco; ComponentLink3URL: https://datasheet.ciiva.com/16200/lite-on20ltst-c171kskt-16200102.pdf?src-supplier=Future+Electronics; ComponentLink3Description: https://datasheet.ciiva.com/16200/lite-on20ltst-c171kskt-16200102.pdf?src-supplier=Future+Electronics; ComponentLink4URL: https://datasheet.ciiva.com/12403/lite-on-ltst-c171kskt-190118-12403721.pdf?src-supplier=Mouser; ComponentLink4Description: https://datasheet.ciiva.com/12403/lite-on-ltst-c171kskt-190118-12403721.pdf?src-supplier=Mouser; ComponentLink5URL: https://datasheet.ciiva.com/11774/0900766b80dc029a-11774587.pdf?src-supplier=RSComponents; ComponentLink5Description: https://datasheet.ciiva.com/11774/0900766b80dc029a-11774587.pdf?src-supplier=RSComponents; ComponentLink6URL: https://datasheet.ciiva.com/2110/s-110-ltst-c171kskt-2110147.pdf?src-supplier=Digi-Key; ComponentLink6Description: https://datasheet.ciiva.com/2110/s-110-ltst-c171kskt-2110147.pdf?src-supplier=Digi-Key; ComponentLink7URL: https://datasheet.ciiva.com/2110/s-110-ltst-c171kskt-2110148.pdf?src-supplier=Digi-Key; ComponentLink7Description: https://datasheet.ciiva.com/2110/s-110-ltst-c171kskt-2110148.pdf?src-supplier=Digi-Key; ComponentLink8URL: https://datasheet.ciiva.com/2110/s-110-ltst-c171kskt-2110149.pdf?src-supplier=Digi-Key; ComponentLink8Description: https://datasheet.ciiva.com/2110/s-110-ltst-c171kskt-2110149.pdf?src-supplier=Digi-Key; Supplier Part Number 1: 859-LTST-C171KSKT
footprint LED 0805/2012 YELLOW (Chip Diode, 2-Leads, Body 2.00x1.25mm, IPC Medium Density)
pins: 1, 2

## LED_RGB_WS2812B
designator D?, comment WS2812B
Intelligent control RGB LED integrated light source; Manufacturer 1: SparkFun; Manufacturer Part Number 1: COM-13667; Supplier 1: Mouser; Stock 1: 0; Pricing 1: 1=4.95000, 5=4.95000 (USD); RoHS: No; ComponentLink1URL: https://media.digikey.com/pdf/Data%20Sheets/Sparkfun%20PDFs/Light-Emitting_Diodes_LEDs_Tutorial_Web.pdf?src-supplier=Digi-Key; ComponentLink1Description: https://media.digikey.com/pdf/Data%20Sheets/Sparkfun%20PDFs/Light-Emitting_Diodes_LEDs_Tutorial_Web.pdf?src-supplier=Digi-Key; Supplier Part Number 1: 474-COM-13667
footprint WS2812B (Footprint not found)
pins: 1 VDD, 2 DOUT, 3 VSS, 4 DIN

## NMOS_BSS138
designator Q?, comment BSS138
MOSFET SOT-23 N-CH LOGIC; Manufacturer 1: TI National Semiconductor; Supplier 1: Mouser; Manufacturer Part Number 1: BSS138; Stock 1: 862970; Pricing 1: 1=0.26000, 10=0.17800, 100=0.07400, 1000=0.05000, 3000=0.03900, 9000=0.03300, 24000=0.03100, 45000=0.02900 (USD); RoHS: No; ComponentLink1URL: https://www.fairchildsemi.com/package-drawings/MA/MA03B.pdf?src-supplier=Digi-Key; ComponentLink1Description: https://www.fairchildsemi.com/package-drawings/MA/MA03B.pdf?src-supplier=Digi-Key; Supplier Part Number 1: 512-BSS138
footprint SOT23-3P95_240X120L20X48N (Small Outline Transistor (SOT23), 0.95 mm pitch; 3 pin, 2.92 mm L X 1.325 mm W X 1.20 mm H body)
pins: 1 G, 2 S, 3 D

## OLED TFT 0.96 inch 64x128 monochrome I2C
designator OLED?
OLED TFT 0.96 inch 64x128 monochrome I2C
footprint OLED TFT 0.96 inch 64x128 monochrome I2C
pins: 1 GND, 2 VIN, 3 SCL, 4 SDA

## OSC_CSTNE16M0V530000R0
designator g, comment 16MHz 15pF
CER RES 16.0000MHZ 15PF SMD; Manufacturer 1: Murata; Manufacturer Part Number 1: CSTNE16M0V530000R0; Supplier 1: Mouser; Stock 1: 50852; Pricing 1: 1=0.29000, 10=0.24300, 50=0.21900, 100=0.19200, 500=0.18200, 1000=0.15300, 2000=0.14400, 3000=0.12900, 9000=0.12600, 10000=0.12600 (USD); RoHS: No; ComponentLink1URL: https://www.murata.com/en/products/productdata/8801162231838/SPEC-CSTNE16M0V530000R0.pdf?src-supplier=Digi-Key; ComponentLink1Description: https://www.murata.com/en/products/productdata/8801162231838/SPEC-CSTNE16M0V530000R0.pdf?src-supplier=Digi-Key; Supplier Part Number 1: 81-CSTNE16M0V530000R
footprint OSCSC6P120_320X130X100L50X50N (Oscillator, Side Concave, 1.20 mm pitch; 6 pin, 3.20 mm L X 1.30 mm W X 1.00 mm H body)
pins: 1, 2, 3

## PAD_1mmx1mm
designator X?  (value not drawn)
footprint PAD_1mmx1mm
pins: 1

## RES_10K_0805_1%
designator R?, comment 10k
Thick Film Resistors - SMD 1/8Watt 10Kohms 1% Commercial Use; Manufacturer 1: Vishay; Manufacturer Part Number 1: CRCW080510K0FKEAC; Power Rating: 125mW; Resistance: 10000R; Supplier 1: Mouser; Stock 1: 687554; Pricing 1: 1=0.10000, 10=0.05800, 100=0.02300, 500=0.01600, 1000=0.00800, 5000=0.00600, 10000=0.00500 (USD); RoHS: No; Case/Package: 0805; Tolerance: 1%; Lead Free: Lead Free; ComponentLink1URL: http://www.vishay.com/docs/28773/crcwce3.pdf?src-supplier=Digi-Key; ComponentLink1Description: http://www.vishay.com/docs/28773/crcwce3.pdf?src-supplier=Digi-Key; Supplier Part Number 1: 71-CRCW080510K0FKEAC
footprint RES 0805/2012 (Chip Resistor, 2-Leads, Body 2.00x1.25mm, IPC Medium Density)
pins: 1, 2

## RES_220R_0805_1%
designator R?, comment 220R
Thick Film Resistors - SMD 1/8Watt 220ohms 1% Commercial Use; Manufacturer 1: Vishay Semiconductors; Manufacturer Part Number 1: CRCW0805220RFKEAC; Power Rating: 125mW; Temperature Coefficient: 100ppm/°C; Supplier 1: Mouser; Stock 1: 36976; Pricing 1: 1=0.10000, 10=0.05200, 100=0.02000, 500=0.01200, 1000=0.00600, 5000=0.00500 (USD); RoHS: Yes; Mount: Surface Mount; Case/Package: SMD/SMT; Contact Plating: Tin; Min Operating Temperature: -55°C; Max Operating Temperature: 155°C; Composition: Thick Film; Resistance: 220R; Tolerance: 1%; Termination: Wraparound; Length: 2mm; Lead Free: Lead Free; ComponentLink1URL: http://www.vishay.com/docs/20035/dcrcwe3.pdf?src-supplier=Avnet+Asia; ComponentLink1Description: http://www.vishay.com/docs/20035/dcrcwe3.pdf?src-supplier=Avnet+Asia; ComponentLink2URL: http://www.vishay.com/docs/28773/crcwce3.pdf?src-supplier=Digi-Key; ComponentLink2Description: http://www.vishay.com/docs/28773/crcwce3.pdf?src-supplier=Digi-Key; Supplier Part Number 1: 71-CRCW0805220RFKEAC
footprint RES 0805/2012 (Chip Resistor, 2-Leads, Body 2.00x1.25mm, IPC Medium Density)
pins: 1, 2

## RES_330R_0805_1%
designator R?, comment 330R
Thick Film Resistors - SMD 330 OHM 1%; Manufacturer 1: Yageo; Manufacturer Part Number 1: RC0805FR-07330RL; Temperature Coefficient: 100ppm/°C; Power Rating: 125mW; Voltage Rating: 150V; Supplier 1: Mouser; Stock 1: 627670; Pricing 1: 1=0.13000, 10=0.03100, 100=0.01100, 1000=0.00800, 5000=0.00500, 10000=0.00500 (USD); RoHS: Yes; Case/Package: 0805; Case Code (Imperial): 0805; Case Code (Metric): 2012; Min Operating Temperature: -55°C; Max Operating Temperature: 155°C; Resistance: 330R; Tolerance: 1%; Packaging: Tape and Reel; Composition: Thick Film; Number of Terminations: 2; Package Quantity: 1; Termination: SMD/SMT; Military Standard: Not; Max Power Dissipation: 125mW; Features: Moisture Resistant; Length: 2mm; Height: 0.024inch; Width: 0.049inch; Depth: 1.25mm; REACH SVHC: Unknown; Lead Free: Lead Free; ComponentLink1URL: https://datasheet.ciiva.com/2457/pyu-r-int-thick-7-2457014.pdf?src-supplier=Digi-Key; ComponentLink1Description: https://datasheet.ciiva.com/2457/pyu-r-int-thick-7-2457014.pdf?src-supplier=Digi-Key; ComponentLink2URL: https://datasheet.ciiva.com/2457/pyu-r-int-thick-7-2457015.pdf?src-supplier=Digi-Key; ComponentLink2Description: https://datasheet.ciiva.com/2457/pyu-r-int-thick-7-2457015.pdf?src-supplier=Digi-Key; ComponentLink3URL: https://datasheet.ciiva.com/7941/444164-7941768.pdf?src-supplier=Element14; ComponentLink3Description: https://datasheet.ciiva.com/7941/444164-7941768.pdf?src-supplier=Element14; ComponentLink4URL: https://datasheet.ciiva.com/7941/444164-7941769.pdf?src-supplier=Element14; ComponentLink4Description: https://datasheet.ciiva.com/7941/444164-7941769.pdf?src-supplier=Element14; ComponentLink5URL: https://datasheet.ciiva.com/16740/rc0805-16740975.pdf?src-supplier=Future+Electronics; ComponentLink5Description: https://datasheet.ciiva.com/16740/rc0805-16740975.pdf?src-supplier=Future+Electronics; ComponentLink6URL: https://datasheet.ciiva.com/12667/rc0805-12667925.pdf?src-supplier=Mouser; ComponentLink6Description: https://datasheet.ciiva.com/12667/rc0805-12667925.pdf?src-supplier=Mouser; ComponentLink7URL: https://datasheet.ciiva.com/2457/pyu-r-int-thick-7-2457016.pdf?src-supplier=Digi-Key; ComponentLink7Description: https://datasheet.ciiva.com/2457/pyu-r-int-thick-7-2457016.pdf?src-supplier=Digi-Key; Supplier Part Number 1: 603-RC0805FR-07330RL
footprint RES 0805/2012 (Chip Resistor, 2-Leads, Body 2.00x1.25mm, IPC Medium Density)
pins: 1, 2

## RES_0805_120R_1%_0W125_100PPM
designator R?, comment 120R
Thick Film Resistors - SMD 1/8watt 120ohms 1% 100ppm; Manufacturer 1: Vishay; Manufacturer Part Number 1: CRCW0805120RFKEA; Power Rating: 125mW; Voltage Rating: 150V; Temperature Coefficient: 100ppm/°C; Supplier 1: Mouser; Stock 1: 34393; Pricing 1: 1=0.10000, 10=0.06600, 100=0.04700, 1000=0.02700, 5000=0.01900, 10000=0.01100, 25000=0.00900, 50000=0.00700, 100000=0.00600 (USD); RoHS: Yes; Mount: Surface Mount; Case/Package: 0805; Weight: 0.000194oz; Case Code (Imperial): 0805; Case Code (Metric): 2012; Contact Plating: Tin; Min Operating Temperature: -55°C; Max Operating Temperature: 155°C; Resistance: 120R; Tolerance: 1%; Packaging: Tape and Reel; Package Quantity: 10; Composition: Thick Film; Number of Terminations: 2; Military Standard: Not; Termination: SMD/SMT; Max Power Dissipation: 125mW; Voltage Rating (DC): 150V; Features: Automotive AEC-Q200; Length: 2mm; Height: 0.45mm; Width: 1.25mm; Depth: 1.25mm; Radiation Hardening: No; REACH SVHC: Unknown; Lead Free: Lead Free; ComponentLink1URL: https://datasheet.ciiva.com/11810/0900766b80d98b26-11810477.pdf?src-supplier=RSComponents; ComponentLink1Description: https://datasheet.ciiva.com/11810/0900766b80d98b26-11810477.pdf?src-supplier=RSComponents; ComponentLink2URL: https://datasheet.ciiva.com/26317/fld-crcw-e3-data-en-26317334.pdf?src-supplier=Distrelec; ComponentLink2Description: https://datasheet.ciiva.com/26317/fld-crcw-e3-data-en-26317334.pdf?src-supplier=Distrelec; ComponentLink3URL: https://datasheet.ciiva.com/2467/dcrcwe3-2467512.pdf?src-supplier=Digi-Key; ComponentLink3Description: https://datasheet.ciiva.com/2467/dcrcwe3-2467512.pdf?src-supplier=Digi-Key; ComponentLink4URL: https://datasheet.ciiva.com/16852/dcrcwe3-16852841.pdf?src-supplier=Avnet+Europe; ComponentLink4Description: https://datasheet.ciiva.com/16852/dcrcwe3-16852841.pdf?src-supplier=Avnet+Europe; ComponentLink5URL: https://datasheet.ciiva.com/2467/dcrcwe3-2467514.pdf?src-supplier=Digi-Key; ComponentLink5Description: https://datasheet.ciiva.com/2467/dcrcwe3-2467514.pdf?src-supplier=Digi-Key; ComponentLink6URL: https://datasheet.ciiva.com/7777/1697337-7777354.pdf?src-supplier=Element14; ComponentLink6Description: https://datasheet.ciiva.com/7777/1697337-7777354.pdf?src-supplier=Element14; ComponentLink7URL: https://datasheet.ciiva.com/16788/70201119-16788154.pdf?src-supplier=Allied+Electronics; ComponentLink7Description: https://datasheet.ciiva.com/16788/70201119-16788154.pdf?src-supplier=Allied+Electronics; ComponentLink8URL: https://datasheet.ciiva.com/2467/dcrcwe3-2467513.pdf?src-supplier=Digi-Key; ComponentLink8Description: https://datasheet.ciiva.com/2467/dcrcwe3-2467513.pdf?src-supplier=Digi-Key; ComponentLink9URL: https://datasheet.ciiva.com/16211/dcrcwe3-16211931.pdf?src-supplier=Future+Electronics; ComponentLink9Description: https://datasheet.ciiva.com/16211/dcrcwe3-16211931.pdf?src-supplier=Future+Electronics; ComponentLink10URL: https://datasheet.ciiva.com/7777/1720486-7777567.pdf?src-supplier=Element14; ComponentLink10Description: https://datasheet.ciiva.com/7777/1720486-7777567.pdf?src-supplier=Element14; ComponentLink11URL: https://datasheet.ciiva.com/3258/dcrcwe3-3258069.pdf?src-supplier=Avnet; ComponentLink11Description: https://datasheet.ciiva.com/3258/dcrcwe3-3258069.pdf?src-supplier=Avnet; Supplier Part Number 1: 71-CRCW0805120RFKEA
footprint CAP 0805/2012 (Chip Capacitor, 2-Leads, Body 2.00x1.20mm, IPC Medium Density)
pins: 1, 2

## RES_RT0603FRE071KL
designator R?, comment 1K 1%
RES SMD 1K OHM 1% 1/10W 0603; Manufacturer 1: Yageo; Manufacturer Part Number 1: RT0603FRE071KL; Voltage Rating: 75V; Resistance: 1kR; Power Rating: 100mW; Temperature Coefficient: 50ppm/°C; Supplier 1: Mouser; Stock 1: 78783; Pricing 1: 1=0.10000, 10=0.04500, 50=0.04500, 100=0.01500, 1000=0.00900, 5000=0.00700, 10000=0.00600, 25000=0.00500 (USD); RoHS: Yes; Case/Package: 0603; Number of Pins: 2; Case Code (Imperial): 0603; Case Code (Metric): 1608; Contact Plating: Tin,Lead; Min Operating Temperature: -55°C; Max Operating Temperature: 125°C; Tolerance: 1%; Packaging: Tape and Reel; Package Quantity: 5000; Composition: Thin Film; Termination: SMD/SMT; Number of Terminations: 2; Military Standard: Not; Max Power Dissipation: 100mW; Voltage Rating (DC): 75V; Features: Moisture Resistant; Length: 1.6mm; Height: 0.022inch; Width: 0.8mm; Depth: 0.8mm; REACH SVHC: Unknown; Lead Free: Lead Free; ComponentLink1URL: https://datasheet.ciiva.com/12834/pyu-rt-1-to-0-05-rohs-l-4-12834838.pdf?src-supplier=Mouser; ComponentLink1Description: https://datasheet.ciiva.com/12834/pyu-rt-1-to-0-05-rohs-l-4-12834838.pdf?src-supplier=Mouser; ComponentLink2URL: https://datasheet.ciiva.com/2559/pyu-rt-1-to-0-05-rohs-l-5-2559630.pdf?src-supplier=Digi-Key; ComponentLink2Description: https://datasheet.ciiva.com/2559/pyu-rt-1-to-0-05-rohs-l-5-2559630.pdf?src-supplier=Digi-Key; Supplier Part Number 1: 603-RT0603FRE071KL
footprint RES 0603/1608 (Chip Resistor, 2-Leads, Body 1.60x0.80mm, IPC Medium Density)
pins: 1, 2

## RES_RT0603FRE07680RL
designator R?, comment 680R 1%
RES SMD 680 OHM 1% 1/10W 0603; Manufacturer 1: Yageo; Manufacturer Part Number 1: RT0603FRE07680RL; Power Rating: 100mW; Voltage Rating: 75V; Temperature Coefficient: 50ppm/°C; Supplier 1: Mouser; Stock 1: 15110; Pricing 1: 1=0.19000, 10=0.04600, 50=0.04600, 100=0.01500, 1000=0.01100, 10000=0.00700 (USD); RoHS: Yes; Case/Package: 0603; Number of Pins: 2; Case Code (Imperial): 0603; Case Code (Metric): 1608; Min Operating Temperature: -55°C; Max Operating Temperature: 125°C; Resistance: 680R; Tolerance: 1%; Packaging: Tape and Reel; Package Quantity: 5000; Composition: Thin Film; Number of Terminations: 2; Termination: SMD/SMT; Military Standard: Not; Max Power Dissipation: 100mW; Voltage Rating (DC): 75V; Features: Moisture Resistant; Length: 1.6mm; Height: 0.022inch; Width: 0.031inch; Depth: 0.8mm; REACH SVHC: Unknown; Lead Free: Lead Free; ComponentLink1URL: https://datasheet.ciiva.com/2559/pyu-rt-1-to-0-05-rohs-l-5-2559903.pdf?src-supplier=Digi-Key; ComponentLink1Description: https://datasheet.ciiva.com/2559/pyu-rt-1-to-0-05-rohs-l-5-2559903.pdf?src-supplier=Digi-Key; ComponentLink2URL: https://datasheet.ciiva.com/12834/pyu-rt-1-to-0-05-rohs-l-4-12834827.pdf?src-supplier=Mouser; ComponentLink2Description: https://datasheet.ciiva.com/12834/pyu-rt-1-to-0-05-rohs-l-4-12834827.pdf?src-supplier=Mouser; Supplier Part Number 1: 603-RT0603FRE07680RL
footprint RES 0603/1608 (Chip Resistor, 2-Leads, Body 1.60x0.80mm, IPC Medium Density)
pins: 1, 2

## RES_THT
designator R?  (value not drawn)
Resistor through hole
footprint RES_THT_AXIAL-0.4 (Axial Device, Thru-Hole; 2 Leads; 0.4 in Pin Spacing)
pins: 1, 2

## RES_THT_2k
designator R?, comment 2k  (value not drawn)
Resistor through hole
footprint RES_THT_AXIAL-0.4 (Axial Device, Thru-Hole; 2 Leads; 0.4 in Pin Spacing)
pins: 1, 2

## RES_THT_3k9
designator R?, comment 3k9  (value not drawn)
Resistor through hole
footprint RES_THT_AXIAL-0.4 (Axial Device, Thru-Hole; 2 Leads; 0.4 in Pin Spacing)
pins: 1, 2

## RES_THT_8k2
designator R?, comment 8k2  (value not drawn)
Resistor through hole
footprint RES_THT_AXIAL-0.4 (Axial Device, Thru-Hole; 2 Leads; 0.4 in Pin Spacing)
pins: 1, 2

## RES_THT_10k
designator R?, comment 10k  (value not drawn)
Resistor through hole
footprint RES_THT_AXIAL-0.4 (Axial Device, Thru-Hole; 2 Leads; 0.4 in Pin Spacing)
pins: 1, 2

## RES_THT_18k
designator R?, comment 18k  (value not drawn)
Resistor through hole
footprint RES_THT_AXIAL-0.4 (Axial Device, Thru-Hole; 2 Leads; 0.4 in Pin Spacing)
pins: 1, 2

## RES_THT_22k
designator R?, comment 22k  (value not drawn)
Resistor through hole
footprint RES_THT_AXIAL-0.4 (Axial Device, Thru-Hole; 2 Leads; 0.4 in Pin Spacing)
pins: 1, 2

## RES_THT_68R
designator R?, comment 68R  (value not drawn)
Resistor through hole
footprint RES_THT_AXIAL-0.4 (Axial Device, Thru-Hole; 2 Leads; 0.4 in Pin Spacing)
pins: 1, 2

## RES_THT_220k
designator R?, comment 220k  (value not drawn)
Resistor through hole
footprint RES_THT_AXIAL-0.4 (Axial Device, Thru-Hole; 2 Leads; 0.4 in Pin Spacing)
pins: 1, 2